# Altium schematic symbol library RTC.SchLib: 9 symbols
Pins are listed as number, name and electrical type; pins without a type are passive.

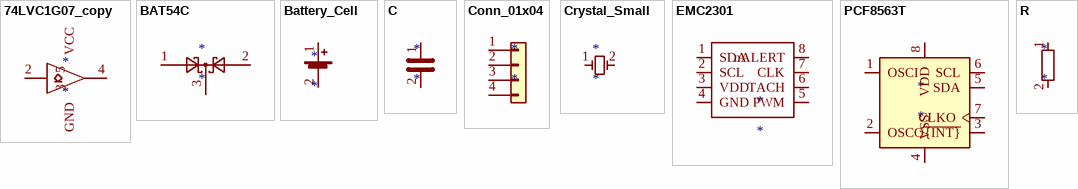
[diagram p0: symbols 74LVC1G07_copy to R]

## 74LVC1G07_copy
designator *
pins: 2, 3 GND, 4, 5 VCC

## BAT54C
designator *
pins: 1, 2, 3

## Battery_Cell
designator *
pins: 1 +, 2 -

## C
designator *
pins: 1, 2

## Conn_01x04
designator *
pins: 1 Pin_1, 2 Pin_2, 3 Pin_3, 4 Pin_4

## Crystal_Small
designator *
pins: 1, 2

## EMC2301
designator *
pins: 1 SDA, 2 SCL, 3 VDD, 4 GND, 5 PWM, 6 TACH, 7 CLK, 8 nALERT

## PCF8563T
designator *
pins: 1 OSCI, 2 OSCO, 3 ~{{INT}}, 4 VSS, 5 SDA, 6 SCL, 7 CLKO, 8 VDD

## R
designator *
pins: 1, 2